# EAGLE library part G6BK-1114P-US (library G6BK-1114P-US)
RELAY 1 x norm. open, 10 A/240 V, Omron Double-winding Latching Model
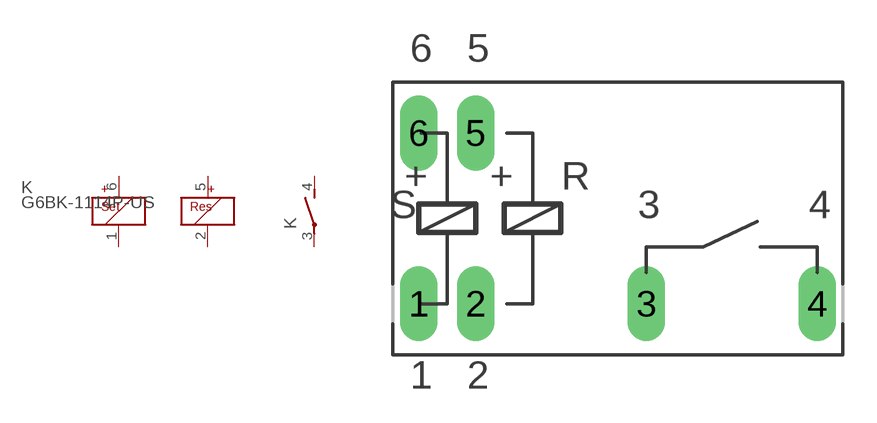
[diagram p0: symbol with the pads of G6BK-1114P-US; footprint G6BK-1114P-US]

Designator prefix K; gates S=COIL 2=S

## G6BK-1114P-US  [G6BK-1114P-US]
1  S:S-  pas
2  S:R-  pas
3  2:P  pas
4  2:S  pas
5  S:R+  pas
6  S:S+  pas

## Footprint G6BK-1114P-US (pad centres in mm)
RELAY 1 x norm. open, 10 A/240 V, Omron Double-winding Latching Model
drill 1.118 long: 1 -8.89,-5.08; 2 -6.35,-5.08; 3 1.27,-5.08; 4 8.89,-5.08; 5 -6.35,2.54; 6 -8.89,2.54